# Altium schematic symbol library io_expanders.SchLib: 9 symbols
Pins are listed as number, name and electrical type; pins without a type are passive.

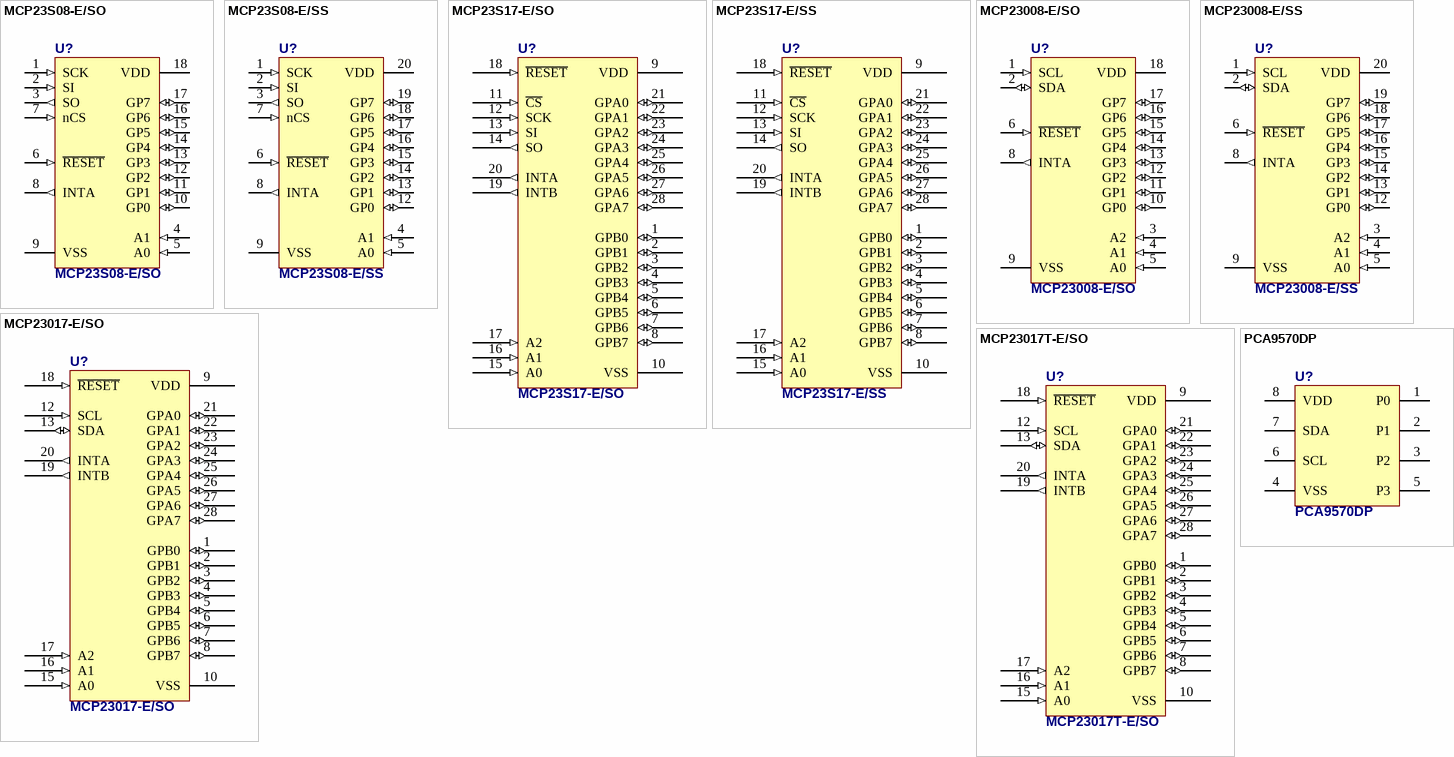
[diagram p0: symbols MCP23S08-E/SO to PCA9570DP]

## MCP23S08-E/SO
designator U?
8-Bit I/O Expander with Serial Interface SPI, 18-Pin SOIC Package
footprint SO18W
pins: 1 SCK (in), 2 SI (in), 3 SO (out), 4 A1 (in), 5 A0 (in), 6 ~{RESET} (in), 7 nCS (in), 8 INTA (out), 9 VSS (power), 10 GP0 (io), 11 GP1 (io), 12 GP2 (io), 13 GP3 (io), 14 GP4 (io), 15 GP5 (io), 16 GP6 (io), 17 GP7 (io), 18 VDD (power)

## MCP23S08-E/SS
designator U?
8-Bit I/O Expander with Serial Interface SPI, 20-Pin SSOP Package
footprint SSOP20
pins: 1 SCK (in), 2 SI (in), 3 SO (out), 4 A1 (in), 5 A0 (in), 6 ~{RESET} (in), 7 nCS (in), 8 INTA (out), 9 VSS (power), 12 GP0 (io), 13 GP1 (io), 14 GP2 (io), 15 GP3 (io), 16 GP4 (io), 17 GP5 (io), 18 GP6 (io), 19 GP7 (io), 20 VDD (power)

## MCP23S17-E/SO
designator U?
16-Bit I/O Expander with Serial Interface I2C, SO28 Package
footprint SO28 (Small Outline; 28 Leads; Body Width 8.38 mm; Pitch 1.27 mm)
pins: 1 GPB0 (io), 2 GPB1 (io), 3 GPB2 (io), 4 GPB3 (io), 5 GPB4 (io), 6 GPB5 (io), 7 GPB6 (io), 8 GPB7 (io), 9 VDD (power), 10 VSS (power), 11 ~{CS} (in), 12 SCK (in), 13 SI (in), 14 SO (out), 15 A0 (in), 16 A1 (in), 17 A2 (in), 18 ~{RESET} (in), 19 INTB (out), 20 INTA (out), 21 GPA0 (io), 22 GPA1 (io), 23 GPA2 (io), 24 GPA3 (io), 25 GPA4 (io), 26 GPA5 (io), 27 GPA6 (io), 28 GPA7 (io)

## MCP23S17-E/SS
designator U?
16-Bit I/O Expander with Serial Interface I2C, SSOP28 Package
footprint SSOP28
pins: 1 GPB0 (io), 2 GPB1 (io), 3 GPB2 (io), 4 GPB3 (io), 5 GPB4 (io), 6 GPB5 (io), 7 GPB6 (io), 8 GPB7 (io), 9 VDD (power), 10 VSS (power), 11 ~{CS} (in), 12 SCK (in), 13 SI (in), 14 SO (out), 15 A0 (in), 16 A1 (in), 17 A2 (in), 18 ~{RESET} (in), 19 INTB (out), 20 INTA (out), 21 GPA0 (io), 22 GPA1 (io), 23 GPA2 (io), 24 GPA3 (io), 25 GPA4 (io), 26 GPA5 (io), 27 GPA6 (io), 28 GPA7 (io)

## MCP23008-E/SO
designator U?
8-Bit I/O Expander with Serial Interface I2C, 18-Pin SOIC Package
footprint SO18W
pins: 1 SCL (in), 2 SDA (io), 3 A2 (in), 4 A1 (in), 5 A0 (in), 6 ~{RESET} (in), 8 INTA (out), 9 VSS (power), 10 GP0 (io), 11 GP1 (io), 12 GP2 (io), 13 GP3 (io), 14 GP4 (io), 15 GP5 (io), 16 GP6 (io), 17 GP7 (io), 18 VDD (power)

## MCP23008-E/SS
designator U?
8-Bit I/O Expander with Serial Interface I2C, 20-Pin SSOP Package
footprint SSOP20
pins: 1 SCL (in), 2 SDA (io), 3 A2 (in), 4 A1 (in), 5 A0 (in), 6 ~{RESET} (in), 8 INTA (out), 9 VSS (power), 12 GP0 (io), 13 GP1 (io), 14 GP2 (io), 15 GP3 (io), 16 GP4 (io), 17 GP5 (io), 18 GP6 (io), 19 GP7 (io), 20 VDD (power)

## MCP23017-E/SO
designator U?
16-Bit I/O Expander with Serial Interface I2C, SO28 Package
footprint SO28 (Small Outline; 28 Leads; Body Width 8.38 mm; Pitch 1.27 mm)
pins: 1 GPB0 (io), 2 GPB1 (io), 3 GPB2 (io), 4 GPB3 (io), 5 GPB4 (io), 6 GPB5 (io), 7 GPB6 (io), 8 GPB7 (io), 9 VDD (power), 10 VSS (power), 11 NC hidden, 12 SCL (in), 13 SDA (io), 14 NC hidden, 15 A0 (in), 16 A1 (in), 17 A2 (in), 18 ~{RESET} (in), 19 INTB (out), 20 INTA (out), 21 GPA0 (io), 22 GPA1 (io), 23 GPA2 (io), 24 GPA3 (io), 25 GPA4 (io), 26 GPA5 (io), 27 GPA6 (io), 28 GPA7 (io)

## MCP23017T-E/SO
designator U?
16-Bit I/O Expander with Serial Interface I2C, Extended Temp, SO28 Package
footprint SO28 (Small Outline; 28 Leads; Body Width 8.38 mm; Pitch 1.27 mm)
pins: 1 GPB0 (io), 2 GPB1 (io), 3 GPB2 (io), 4 GPB3 (io), 5 GPB4 (io), 6 GPB5 (io), 7 GPB6 (io), 8 GPB7 (io), 9 VDD (power), 10 VSS (power), 11 NC hidden, 12 SCL (in), 13 SDA (io), 14 NC hidden, 15 A0 (in), 16 A1 (in), 17 A2 (in), 18 ~{RESET} (in), 19 INTB (out), 20 INTA (out), 21 GPA0 (io), 22 GPA1 (io), 23 GPA2 (io), 24 GPA3 (io), 25 GPA4 (io), 26 GPA5 (io), 27 GPA6 (io), 28 GPA7 (io)

## PCA9570DP
designator U?
Remote 4-bit general purpose outputs for 1 MHz I2C-bus; Published: 14-Sep-2006
footprint TSSOP8N
pins: 1 P0, 2 P1, 3 P2, 4 VSS, 5 P3, 6 SCL, 7 SDA, 8 VDD